# EAGLE library part STIFTLIST_6X1P (library mylib)
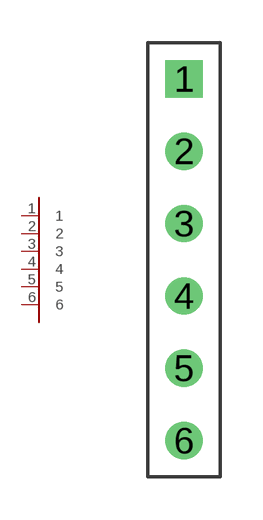
[diagram p0: symbol with the pads of STIFTLIST_6X1P; footprint STIFTLIST_6X1P]

Designator prefix -

## STIFTLIST_6X1P  [STIFTLIST_6X1P]
1  1
2  2
3  3
4  4
5  5
6  6

## Footprint STIFTLIST_6X1P (pad centres in mm)
drill 0.8 square: 1 0,7.62
drill 0.8: 2 0,5.08; 3 0,2.54; 4 0,0; 5 0,-2.54; 6 0,-5.08